# EAGLE library part CONN_18 (library HW2_ME433)
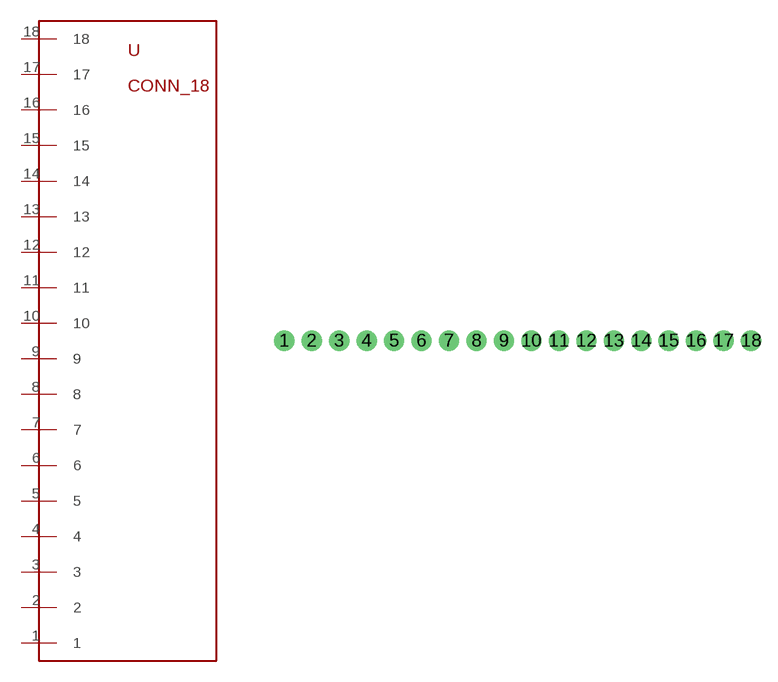
[diagram p2: symbol with the pads of CONN_18; footprint CONN_18]

Designator prefix -

## CONN_18  [CONN_18]
1  1
2  2
3  3
4  4
5  5
6  6
7  7
8  8
9  9
10  10
11  11
12  12
13  13
14  14
15  15
16  16
17  17
18  18

## Footprint CONN_18 (pad centres in mm)
drill 1.016 pad 1.88: 1 -17.78,1.27; 2 -15.24,1.27; 3 -12.7,1.27; 4 -10.16,1.27; 5 -7.62,1.27; 6 -5.08,1.27; 7 -2.54,1.27; 8 0,1.27; 9 2.54,1.27; 10 5.08,1.27; 11 7.62,1.27; 12 10.16,1.27; 13 12.7,1.27; 14 15.24,1.27; 15 17.78,1.27; 16 20.32,1.27; 17 22.86,1.27; 18 25.4,1.27